# Altium schematic symbol library TCA9517DGKRQ1.SchLib: 1 symbol
Pins are listed as number, name and electrical type; pins without a type are passive.

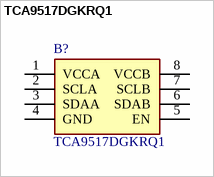
[diagram p0: symbol TCA9517DGKRQ1]

## TCA9517DGKRQ1
designator B?
Automotive, Level-Shifting I2C Bus Repeater; Manufacturer_Name: Texas Instruments; Geometry.Height: 1.1mm; Mouser Part Number: 595-TCA9517DGKRQ1; Mouser Price/Stock: https://www.mouser.co.uk/ProductDetail/Texas-Instruments/TCA9517DGKRQ1?qs=%252BEew9%252B0nqrBZmTVyzm%252B7dQ%3D%3D; Manufacturer_Part_Number: TCA9517DGKRQ1; Datasheet Link: http://www.ti.com/lit/gpn/tca9517-q1
footprint SOP65P490X110-8N
pins: 1 VCCA, 2 SCLA, 3 SDAA, 4 GND, 5 EN, 6 SDAB, 7 SCLB, 8 VCCB